# Altium integrated library WE-CMB Common Mode Power Line Choke.IntLib: 33 symbols
Pins are listed as number, name and electrical type; pins without a type are passive.

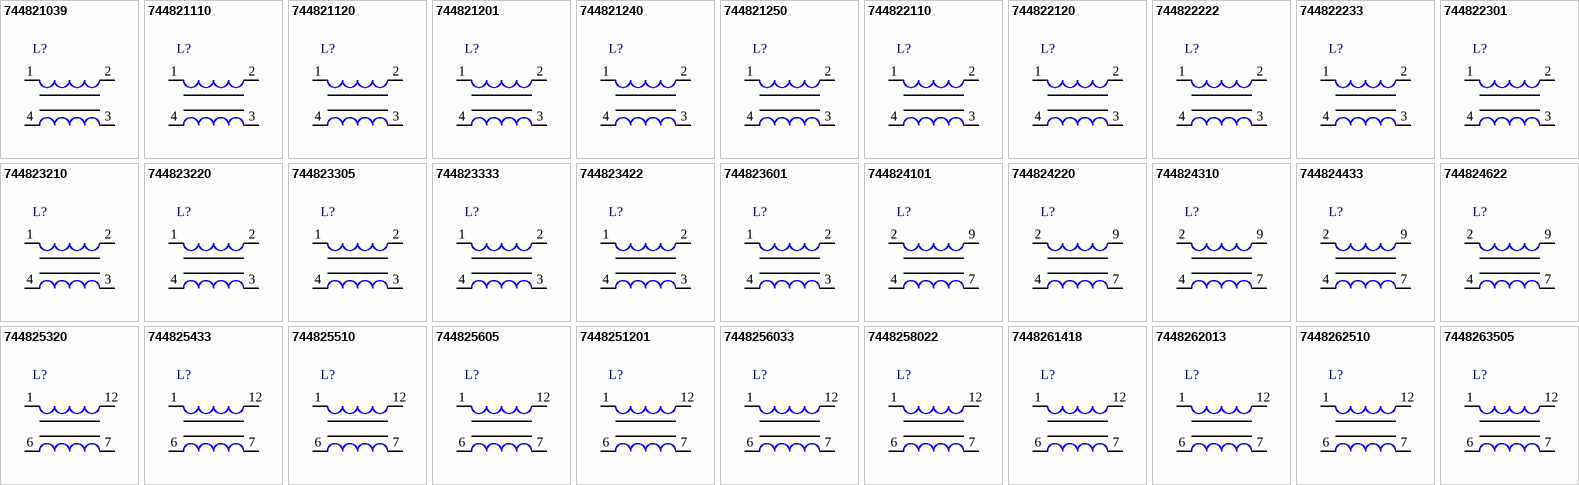
[diagram p0: symbols 744821039 to 7448263505]

## 744821039
designator L?
THT Common Mode Power Line Choke WE-CMB, L = 39.0 mH; PartNumber: 744821039; Inductance: 39.0 mH; DatasheetVersion: ver 1, Oct-2004; PackageReference: WE-CMB-XS; PackageDescription: THT Inductor, 2-Leads, Body 15.0 x 7.5 mm; ComponentLink1Description: Manufacturer URL; ComponentLink1URL: http://www.we-online.com; ComponentLink2Description: Datasheet; ComponentLink2URL: http://www.we-online.de/katalog/media/pdf/744821039.pdf
footprint WE-CMB-XS (THT Inductor, 2-Leads, Body 15.0x7.5x18.0 mm)
pins: 1, 2, 3, 4

## 744821110
designator L?
THT Common Mode Power Line Choke WE-CMB, L = 10.0 mH; PartNumber: 744821110; Inductance: 10.0 mH; DatasheetVersion: ver 1, Oct-2004; PackageReference: WE-CMB-XS; PackageDescription: THT Inductor, 2-Leads, Body 15.0 x 7.5 mm; ComponentLink1Description: Manufacturer URL; ComponentLink1URL: http://www.we-online.com; ComponentLink2Description: Datasheet; ComponentLink2URL: http://www.we-online.de/katalog/media/pdf/744821110.pdf
footprint WE-CMB-XS (THT Inductor, 2-Leads, Body 15.0x7.5x18.0 mm)
pins: 1, 2, 3, 4

## 744821120
designator L?
THT Common Mode Power Line Choke WE-CMB, L = 20.0 mH; PartNumber: 744821120; Inductance: 20.0 mH; DatasheetVersion: ver 2, Jun-2005; PackageReference: WE-CMB-XS; PackageDescription: THT Inductor, 2-Leads, Body 15.0 x 7.5 mm; ComponentLink1Description: Manufacturer URL; ComponentLink1URL: http://www.we-online.com; ComponentLink2Description: Datasheet; ComponentLink2URL: http://www.we-online.de/katalog/media/pdf/744821120.pdf
footprint WE-CMB-XS (THT Inductor, 2-Leads, Body 15.0x7.5x18.0 mm)
pins: 1, 2, 3, 4

## 744821201
designator L?
THT Common Mode Power Line Choke WE-CMB, L = 1.00 mH; PartNumber: 744821201; Inductance: 1.00 mH; DatasheetVersion: ver 1, Oct-2004; PackageReference: WE-CMB-XS; PackageDescription: THT Inductor, 2-Leads, Body 15.0 x 7.5 mm; ComponentLink1Description: Manufacturer URL; ComponentLink1URL: http://www.we-online.com; ComponentLink2Description: Datasheet; ComponentLink2URL: http://www.we-online.de/katalog/media/pdf/744821201.pdf
footprint WE-CMB-XS (THT Inductor, 2-Leads, Body 15.0x7.5x18.0 mm)
pins: 1, 2, 3, 4

## 744821240
designator L?
THT Common Mode Power Line Choke WE-CMB, L = 4.00 mH; PartNumber: 744821240; Inductance: 4.00 mH; DatasheetVersion: ver 1, Oct-2004; PackageReference: WE-CMB-XS; PackageDescription: THT Inductor, 2-Leads, Body 15.0 x 7.5 mm; ComponentLink1Description: Manufacturer URL; ComponentLink1URL: http://www.we-online.com; ComponentLink2Description: Datasheet; ComponentLink2URL: http://www.we-online.de/katalog/media/pdf/744821240.pdf
footprint WE-CMB-XS (THT Inductor, 2-Leads, Body 15.0x7.5x18.0 mm)
pins: 1, 2, 3, 4

## 744821250
designator L?
THT Common Mode Power Line Choke WE-CMB, L=5.00 mH; PartNumber: 744821250; Inductance: 5.00 mH; PackageReference: WE-CMB-XS; PackageDescription: THT Inductor, 2-Leads, Body 15.0 x 7.5 mm; ComponentLink1Description: Manufacturer URL; ComponentLink1URL: http://www.we-online.com; ComponentLink2Description: Datasheet; ComponentLink2URL: http://www.we-online.de/katalog/media/pdf/744821250.pdf
footprint WE-CMB-XS (THT Inductor, 2-Leads, Body 15.0x7.5x18.0 mm)
pins: 1, 2, 3, 4

## 744822110
designator L?
THT Common Mode Power Line Choke WE-CMB, L = 10.0 mH; PartNumber: 744822110; Inductance: 10.0 mH; DatasheetVersion: ver 4, Oct-2004; PackageReference: WE-CMB-S; PackageDescription: THT Inductor, 4-Leads, Body 17.5 x 13.0 mm; ComponentLink1Description: Manufacturer URL; ComponentLink1URL: http://www.we-online.com; ComponentLink2Description: Datasheet; ComponentLink2URL: http://www.we-online.de/katalog/media/pdf/744822110.pdf
footprint WE-CMB-S (THT Inductor, 4-Leads, Body 17.5x13.0x22.0 mm)
pins: 1, 2, 3, 4

## 744822120
designator L?
THT Common Mode Power Line Choke WE-CMB, L = 20.0 mH; PartNumber: 744822120; Inductance: 20.0 mH; DatasheetVersion: ver 4, Oct-2004; PackageReference: WE-CMB-S; PackageDescription: THT Inductor, 4-Leads, Body 17.5 x 13.0 mm; ComponentLink1Description: Manufacturer URL; ComponentLink1URL: http://www.we-online.com; ComponentLink2Description: Datasheet; ComponentLink2URL: http://www.we-online.de/katalog/media/pdf/744822120.pdf
footprint WE-CMB-S (THT Inductor, 4-Leads, Body 17.5x13.0x22.0 mm)
pins: 1, 2, 3, 4

## 744822222
designator L?
THT Common Mode Power Line Choke WE-CMB, L = 2.20 mH; PartNumber: 744822222; Inductance: 2.20 mH; DatasheetVersion: ver 4, Oct-2004; PackageReference: WE-CMB-S; PackageDescription: THT Inductor, 4-Leads, Body 17.5 x 13.0 mm; ComponentLink1Description: Manufacturer URL; ComponentLink1URL: http://www.we-online.com; ComponentLink2Description: Datasheet; ComponentLink2URL: http://www.we-online.de/katalog/media/pdf/744822222.pdf
footprint WE-CMB-S (THT Inductor, 4-Leads, Body 17.5x13.0x22.0 mm)
pins: 1, 2, 3, 4

## 744822233
designator L?
THT Common Mode Power Line Choke WE-CMB, L = 3.30 mH; PartNumber: 744822233; Inductance: 3.30 mH; DatasheetVersion: ver 4, Oct-2004; PackageReference: WE-CMB-S; PackageDescription: THT Inductor, 4-Leads, Body 17.5 x 13.0 mm; ComponentLink1Description: Manufacturer URL; ComponentLink1URL: http://www.we-online.com; ComponentLink2Description: Datasheet; ComponentLink2URL: http://www.we-online.de/katalog/media/pdf/744822233.pdf
footprint WE-CMB-S (THT Inductor, 4-Leads, Body 17.5x13.0x22.0 mm)
pins: 1, 2, 3, 4

## 744822301
designator L?
THT Common Mode Power Line Choke WE-CMB, L = 1.00 mH; PartNumber: 744822301; Inductance: 1.00 mH; DatasheetVersion: ver 4, Oct-2004; PackageReference: WE-CMB-S; PackageDescription: THT Inductor, 4-Leads, Body 17.5 x 13.0 mm; ComponentLink1Description: Manufacturer URL; ComponentLink1URL: http://www.we-online.com; ComponentLink2Description: Datasheet; ComponentLink2URL: http://www.we-online.de/katalog/media/pdf/744822301.pdf
footprint WE-CMB-S (THT Inductor, 4-Leads, Body 17.5x13.0x22.0 mm)
pins: 1, 2, 3, 4

## 744823210
designator L?
THT Common Mode Power Line Choke WE-CMB, L = 10.0 mH; PartNumber: 744823210; Inductance: 10.0 mH; DatasheetVersion: ver 4, Oct-2004; PackageReference: WE-CMB-M; PackageDescription: THT Inductor, 4-Leads, Body 25.0 x 17.0 mm; ComponentLink1Description: Manufacturer URL; ComponentLink1URL: http://www.we-online.com; ComponentLink2Description: Datasheet; ComponentLink2URL: http://www.we-online.de/katalog/media/pdf/744823210.pdf
footprint WE-CMB-M (THT Inductor, 4-Leads, Body 25.0x17.0x26.5 mm)
pins: 1, 2, 3, 4

## 744823220
designator L?
THT Common Mode Power Line Choke WE-CMB, L = 20.0 mH; PartNumber: 744823220; Inductance: 20.0 mH; DatasheetVersion: ver 4, Oct-2004; PackageReference: WE-CMB-M; PackageDescription: THT Inductor, 4-Leads, Body 25.0 x 17.0 mm; ComponentLink1Description: Manufacturer URL; ComponentLink1URL: http://www.we-online.com; ComponentLink2Description: Datasheet; ComponentLink2URL: http://www.we-online.de/katalog/media/pdf/744823220.pdf
footprint WE-CMB-M (THT Inductor, 4-Leads, Body 25.0x17.0x26.5 mm)
pins: 1, 2, 3, 4

## 744823305
designator L?
THT Common Mode Power Line Choke WE-CMB, L = 5.00 mH; PartNumber: 744823305; Inductance: 5.00 mH; DatasheetVersion: ver 7, Nov-2006; PackageReference: WE-CMB-M; PackageDescription: THT Inductor, 4-Leads, Body 25.0 x 17.0 mm; ComponentLink1Description: Manufacturer URL; ComponentLink1URL: http://www.we-online.com; ComponentLink2Description: Datasheet; ComponentLink2URL: http://www.we-online.de/katalog/media/pdf/744823305.pdf
footprint WE-CMB-M (THT Inductor, 4-Leads, Body 25.0x17.0x26.5 mm)
pins: 1, 2, 3, 4

## 744823333
designator L?
THT Common Mode Power Line Choke WE-CMB, L = 3.30 mH; PartNumber: 744823333; Inductance: 3.30 mH; DatasheetVersion: ver 4, Oct-2004; PackageReference: WE-CMB-M; PackageDescription: THT Inductor, 4-Leads, Body 25.0 x 17.0 mm; ComponentLink1Description: Manufacturer URL; ComponentLink1URL: http://www.we-online.com; ComponentLink2Description: Datasheet; ComponentLink2URL: http://www.we-online.de/katalog/media/pdf/744823333.pdf
footprint WE-CMB-M (THT Inductor, 4-Leads, Body 25.0x17.0x26.5 mm)
pins: 1, 2, 3, 4

## 744823422
designator L?
THT Common Mode Power Line Choke WE-CMB, L = 2.20 mH; PartNumber: 744823422; Inductance: 2.20 mH; DatasheetVersion: ver 8, Jan-2008; PackageReference: WE-CMB-M; PackageDescription: THT Inductor, 4-Leads, Body 25.0 x 17.0 mm; ComponentLink1Description: Manufacturer URL; ComponentLink1URL: http://www.we-online.com; ComponentLink2Description: Datasheet; ComponentLink2URL: http://www.we-online.de/katalog/media/pdf/744823422.pdf
footprint WE-CMB-M (THT Inductor, 4-Leads, Body 25.0x17.0x26.5 mm)
pins: 1, 2, 3, 4

## 744823601
designator L?
THT Common Mode Power Line Choke WE-CMB, L = 1.00 mH; PartNumber: 744823601; Inductance: 1.00 mH; DatasheetVersion: ver 6, Jun-2006; PackageReference: WE-CMB-M; PackageDescription: THT Inductor, 4-Leads, Body 25.0 x 17.0 mm; ComponentLink1Description: Manufacturer URL; ComponentLink1URL: http://www.we-online.com; ComponentLink2Description: Datasheet; ComponentLink2URL: http://www.we-online.de/katalog/media/pdf/744823601.pdf
footprint WE-CMB-M (THT Inductor, 4-Leads, Body 25.0x17.0x26.5 mm)
pins: 1, 2, 3, 4

## 744824101
designator L?
THT Common Mode Power Line Choke WE-CMB, L = 1.00 mH; PartNumber: 744824101; Inductance: 1.00 mH; DatasheetVersion: ver 5, Oct-2004; PackageReference: WE-CMB-L; PackageDescription: THT Inductor, 4-Leads, Body 27.5 x 18.5 mm; ComponentLink1Description: Manufacturer URL; ComponentLink1URL: http://www.we-online.com; ComponentLink2Description: Datasheet; ComponentLink2URL: http://www.we-online.de/katalog/media/pdf/744824101.pdf
footprint WE-CMB-L (THT Inductor, 4-Leads, Body 27.5x18.5x33.0 mm)
pins: 2, 4, 7, 9

## 744824220
designator L?
THT Common Mode Power Line Choke WE-CMB, L = 20.0 mH; PartNumber: 744824220; Inductance: 20.0 mH; DatasheetVersion: ver 5, Oct-2004; PackageReference: WE-CMB-L; PackageDescription: THT Inductor, 4-Leads, Body 27.5 x 18.5 mm; ComponentLink1Description: Manufacturer URL; ComponentLink1URL: http://www.we-online.com; ComponentLink2Description: Datasheet; ComponentLink2URL: http://www.we-online.de/katalog/media/pdf/744824220.pdf
footprint WE-CMB-L (THT Inductor, 4-Leads, Body 27.5x18.5x33.0 mm)
pins: 2, 4, 7, 9

## 744824310
designator L?
THT Common Mode Power Line Choke WE-CMB, L = 10.0 mH; PartNumber: 744824310; Inductance: 10.0 mH; DatasheetVersion: ver 5, Oct-2004; PackageReference: WE-CMB-L; PackageDescription: THT Inductor, 4-Leads, Body 27.5 x 18.5 mm; ComponentLink1Description: Manufacturer URL; ComponentLink1URL: http://www.we-online.com; ComponentLink2Description: Datasheet; ComponentLink2URL: http://www.we-online.de/katalog/media/pdf/744824310.pdf
footprint WE-CMB-L (THT Inductor, 4-Leads, Body 27.5x18.5x33.0 mm)
pins: 2, 4, 7, 9

## 744824433
designator L?
THT Common Mode Power Line Choke WE-CMB, L = 3.30 mH; PartNumber: 744824433; Inductance: 3.30 mH; DatasheetVersion: ver 5, Oct-2004; PackageReference: WE-CMB-L; PackageDescription: THT Inductor, 4-Leads, Body 27.5 x 18.5 mm; ComponentLink1Description: Manufacturer URL; ComponentLink1URL: http://www.we-online.com; ComponentLink2Description: Datasheet; ComponentLink2URL: http://www.we-online.de/katalog/media/pdf/744824433.pdf
footprint WE-CMB-L (THT Inductor, 4-Leads, Body 27.5x18.5x33.0 mm)
pins: 2, 4, 7, 9

## 744824622
designator L?
THT Common Mode Power Line Choke WE-CMB, L = 2.20 mH; PartNumber: 744824622; Inductance: 2.20 mH; DatasheetVersion: ver 5, Oct-2004; PackageReference: WE-CMB-L; PackageDescription: THT Inductor, 4-Leads, Body 27.5 x 18.5 mm; ComponentLink1Description: Manufacturer URL; ComponentLink1URL: http://www.we-online.com; ComponentLink2Description: Datasheet; ComponentLink2URL: http://www.we-online.de/katalog/media/pdf/744824622.pdf
footprint WE-CMB-L (THT Inductor, 4-Leads, Body 27.5x18.5x33.0 mm)
pins: 2, 4, 7, 9

## 744825320
designator L?
THT Common Mode Power Line Choke WE-CMB, L = 20.0 mH; PartNumber: 744825320; Inductance: 20.0 mH; DatasheetVersion: ver 4, Oct-2004; PackageReference: WE-CMB-XL; PackageDescription: THT Inductor, 4-Leads, Body 30.0 x 21.0 mm; ComponentLink1Description: Manufacturer URL; ComponentLink1URL: http://www.we-online.com; ComponentLink2Description: Datasheet; ComponentLink2URL: http://www.we-online.de/katalog/media/pdf/744825320.pdf
footprint WE-CMB-XL (THT Inductor, 4-Leads, Body 30.0x21.0x35.0 mm)
pins: 1, 6, 7, 12

## 744825433
designator L?
THT Common Mode Power Line Choke WE-CMB, L = 33.0 mH; PartNumber: 744825433; Inductance: 33.0 mH; DatasheetVersion: ver 6, Jul-2006; PackageReference: WE-CMB-XL; PackageDescription: THT Inductor, 4-Leads, Body 30.0 x 21.0 mm; ComponentLink1Description: Manufacturer URL; ComponentLink1URL: http://www.we-online.com; ComponentLink2Description: Datasheet; ComponentLink2URL: http://www.we-online.de/katalog/media/pdf/744825433.pdf
footprint WE-CMB-XL (THT Inductor, 4-Leads, Body 30.0x21.0x35.0 mm)
pins: 1, 6, 7, 12

## 744825510
designator L?
THT Common Mode Power Line Choke WE-CMB, L = 10.0 mH; PartNumber: 744825510; Inductance: 10.0 mH; DatasheetVersion: ver 4, Oct-2004; PackageReference: WE-CMB-XL; PackageDescription: THT Inductor, 4-Leads, Body 30.0 x 21.0 mm; ComponentLink1Description: Manufacturer URL; ComponentLink1URL: http://www.we-online.com; ComponentLink2Description: Datasheet; ComponentLink2URL: http://www.we-online.de/katalog/media/pdf/744825510.pdf
footprint WE-CMB-XL (THT Inductor, 4-Leads, Body 30.0x21.0x35.0 mm)
pins: 1, 6, 7, 12

## 744825605
designator L?
THT Common Mode Power Line Choke WE-CMB, L = 5.00 mH; PartNumber: 744825605; Inductance: 5.00 mH; DatasheetVersion: ver 4, Oct-2004; PackageReference: WE-CMB-XL; PackageDescription: THT Inductor, 4-Leads, Body 30.0 x 21.0 mm; ComponentLink1Description: Manufacturer URL; ComponentLink1URL: http://www.we-online.com; ComponentLink2Description: Datasheet; ComponentLink2URL: http://www.we-online.de/katalog/media/pdf/744825605.pdf
footprint WE-CMB-XL (THT Inductor, 4-Leads, Body 30.0x21.0x35.0 mm)
pins: 1, 6, 7, 12

## 7448251201
designator L?
THT Common Mode Power Line Choke WE-CMB, L = 1.00 mH; PartNumber: 7448251201; Inductance: 1.00 mH; DatasheetVersion: ver 5, Nov-2004; PackageReference: WE-CMB-XL; PackageDescription: THT Inductor, 4-Leads, Body 30.0 x 21.0 mm; ComponentLink1Description: Manufacturer URL; ComponentLink1URL: http://www.we-online.com; ComponentLink2Description: Datasheet; ComponentLink2URL: http://www.we-online.de/katalog/media/pdf/7448251201.pdf
footprint WE-CMB-XL (THT Inductor, 4-Leads, Body 30.0x21.0x35.0 mm)
pins: 1, 6, 7, 12

## 7448256033
designator L?
THT Common Mode Power Line Choke WE-CMB, L = 3.30 mH; PartNumber: 7448256033; Inductance: 3.30 mH; DatasheetVersion: ver 4, Oct-2004; PackageReference: WE-CMB-XL; PackageDescription: THT Inductor, 4-Leads, Body 30.0 x 21.0 mm; ComponentLink1Description: Manufacturer URL; ComponentLink1URL: http://www.we-online.com; ComponentLink2Description: Datasheet; ComponentLink2URL: http://www.we-online.de/katalog/media/pdf/7448256033.pdf
footprint WE-CMB-XL (THT Inductor, 4-Leads, Body 30.0x21.0x35.0 mm)
pins: 1, 6, 7, 12

## 7448258022
designator L?
THT Common Mode Power Line Choke WE-CMB, L = 2.20 mH; PartNumber: 7448258022; Inductance: 2.20 mH; DatasheetVersion: ver 4, Oct-2004; PackageReference: WE-CMB-XL; PackageDescription: THT Inductor, 4-Leads, Body 30.0 x 21.0 mm; ComponentLink1Description: Manufacturer URL; ComponentLink1URL: http://www.we-online.com; ComponentLink2Description: Datasheet; ComponentLink2URL: http://www.we-online.de/katalog/media/pdf/7448258022.pdf
footprint WE-CMB-XL (THT Inductor, 4-Leads, Body 30.0x21.0x35.0 mm)
pins: 1, 6, 7, 12

## 7448261418
designator L?
THT Common Mode Power Line Choke WE-CMB, L = 1.80 mH; PartNumber: 7448261418; Inductance: 1.80 mH; DatasheetVersion: ver 2, Aug-2008; PackageReference: WE-CMB-XXL; PackageDescription: THT Inductor, 4-Leads, Body 43.5 x 23.5 mm; ComponentLink1Description: Manufacturer URL; ComponentLink1URL: http://www.we-online.com; ComponentLink2Description: Datasheet; ComponentLink2URL: http://www.we-online.de/katalog/media/pdf/7448261418.pdf
footprint WE-CMB-XXL (THT Inductor, 4-Leads, Body 43.5x23.5x43.0 mm)
pins: 1, 6, 7, 12

## 7448262013
designator L?
THT Common Mode Power Line Choke WE-CMB, L = 1.30 mH; PartNumber: 7448262013; Inductance: 1.30 mH; DatasheetVersion: ver 2, Aug-2008; PackageReference: WE-CMB-XXL; PackageDescription: THT Inductor, 4-Leads, Body 43.5 x 23.5 mm; ComponentLink1Description: Manufacturer URL; ComponentLink1URL: http://www.we-online.com; ComponentLink2Description: Datasheet; ComponentLink2URL: http://www.we-online.de/katalog/media/pdf/7448262013.pdf
footprint WE-CMB-XXL (THT Inductor, 4-Leads, Body 43.5x23.5x43.0 mm)
pins: 1, 6, 7, 12

## 7448262510
designator L?
THT Common Mode Power Line Choke WE-CMB, L = 1.00 mH; PartNumber: 7448262510; Inductance: 1.00 mH; DatasheetVersion: ver 2, Aug-2008; PackageReference: WE-CMB-XXL; PackageDescription: THT Inductor, 4-Leads, Body 43.5 x 23.5 mm; ComponentLink1Description: Manufacturer URL; ComponentLink1URL: http://www.we-online.com; ComponentLink2Description: Datasheet; ComponentLink2URL: http://www.we-online.de/katalog/media/pdf/7448262510.pdf
footprint WE-CMB-XXL (THT Inductor, 4-Leads, Body 43.5x23.5x43.0 mm)
pins: 1, 6, 7, 12

## 7448263505
designator L?
THT Common Mode Power Line Choke WE-CMB, L = 0.50 mH; PartNumber: 7448263505; Inductance: 0.50 mH; DatasheetVersion: ver 2, Aug-2008; PackageReference: WE-CMB-XXL; PackageDescription: THT Inductor, 4-Leads, Body 43.5 x 23.5 mm; ComponentLink1Description: Manufacturer URL; ComponentLink1URL: http://www.we-online.com; ComponentLink2Description: Datasheet; ComponentLink2URL: http://www.we-online.de/katalog/media/pdf/7448263505.pdf
footprint WE-CMB-XXL (THT Inductor, 4-Leads, Body 43.5x23.5x43.0 mm)
pins: 1, 6, 7, 12